# Altium footprint library SAM4N_Xplained_Pro.PcbLib: 42 footprints (part 1 of 3)
Each footprint in its own frame and in the unit in brackets; x right, y up, seen from the top. Pads: shape width x height; smd on the part's side, far side on the other; paste and mask are expansions set on the pad; w line width, h text height; cw(c..) or ccw(c..) is an arc to the next point about the centre after c.
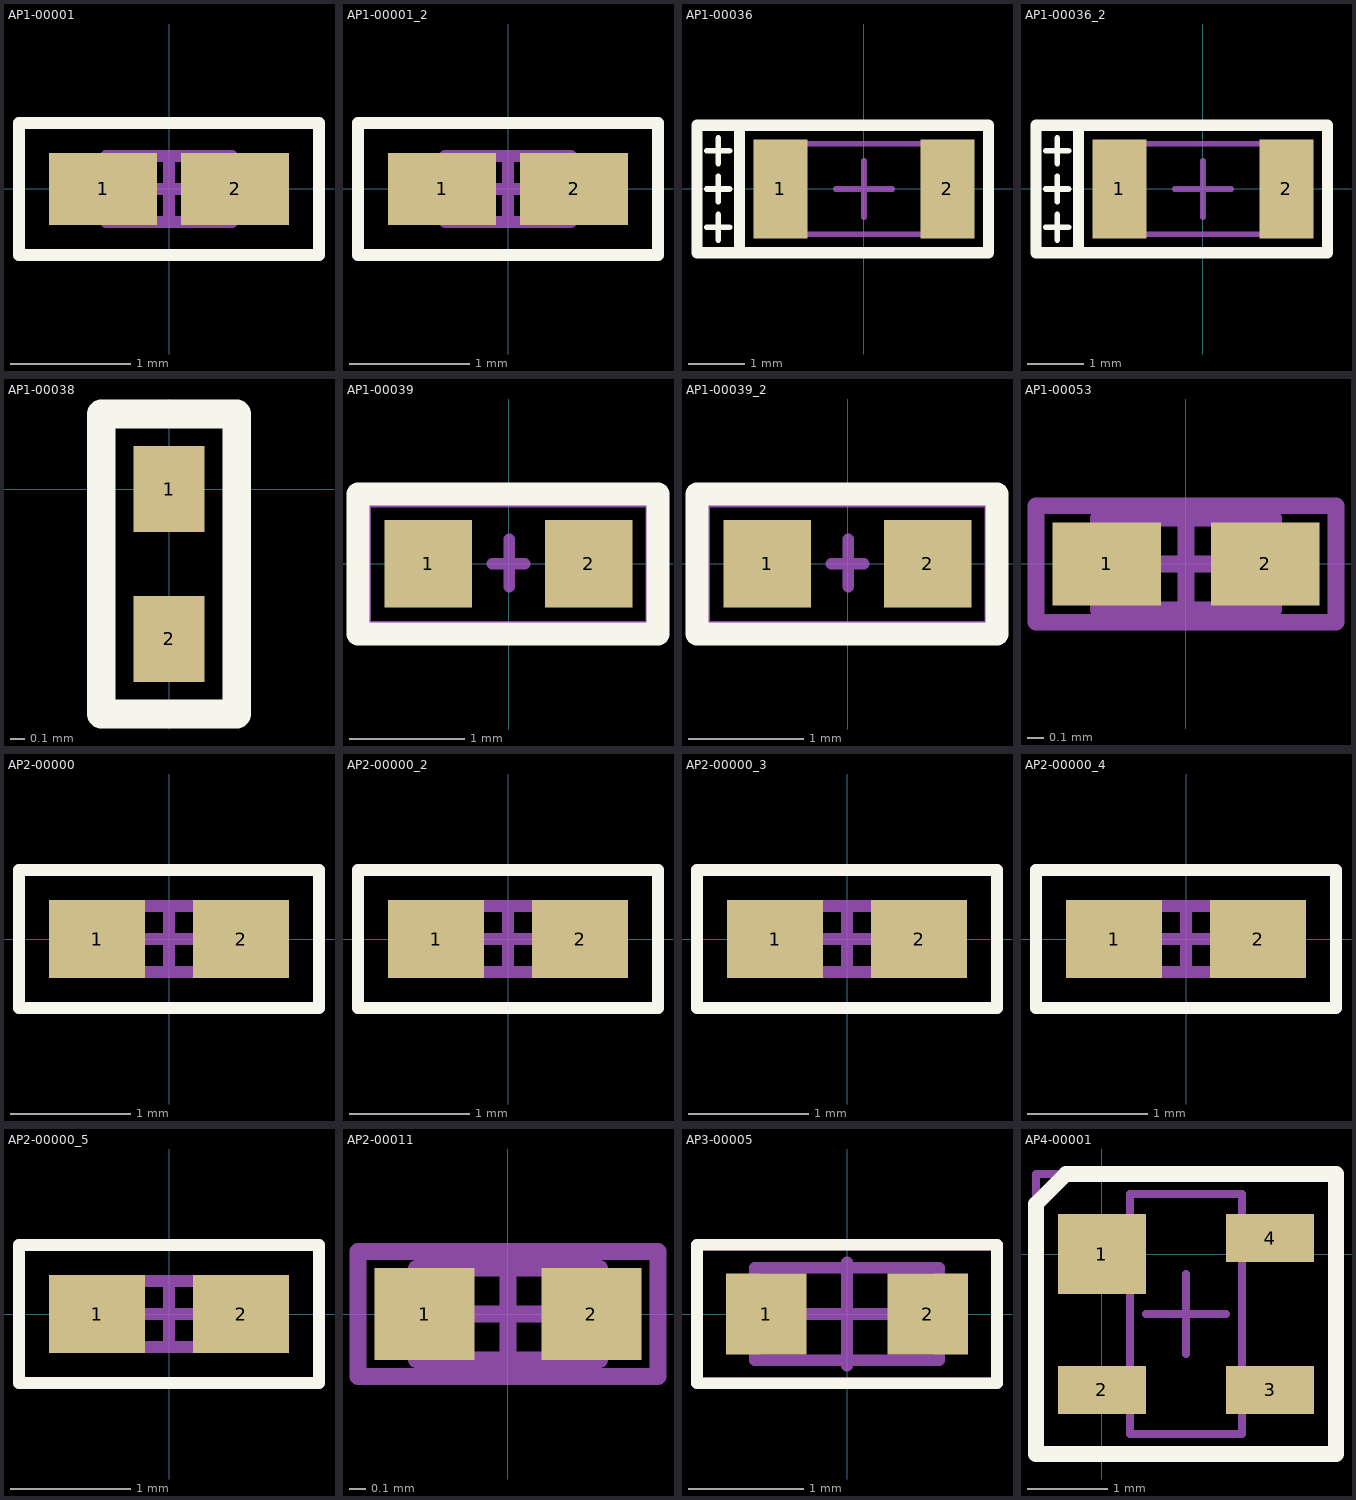
[diagram p0: the footprints below, top view; thin cyan lines are the x and y axes]

## AP1-00001 [mm]
pads (2):
  rect 0.9x0.6 smd: 1(-0.55,0) 2(0.55,0)
Top Overlay:
  lines w0.1: -1.25,-0.55 1.25,-0.55 1.25,0.55 -1.25,0.55 -1.25,-0.55
Mechanical 13:
  lines w0.1: -0.525,-0.275 0.525,-0.275 0.525,0.275 -0.525,0.275 -0.525,-0.275
Mechanical 15:
  lines w0.1: -0.275,0 0.275,0 ; 0,-0.275 0,0.275 ; -1.25,-0.55 1.25,-0.55 1.25,0.55 -1.25,0.55 -1.25,-0.55
3D body "0402 SMD Capacitor.step": height 0.2, standoff 0, extent -0.5,-0.3 0.5,0.3

## AP1-00001_2 [mm]
pads (2):
  rect 0.9x0.6 smd: 1(-0.55,0) 2(0.55,0)
Top Overlay:
  lines w0.1: -1.25,-0.55 -1.25,0.55 1.25,0.55 1.25,-0.55 -1.25,-0.55
Mechanical 13:
  lines w0.1: -0.525,-0.275 -0.525,0.275 0.525,0.275 0.525,-0.275 -0.525,-0.275
Mechanical 15:
  lines w0.1: -0.275,0 0.275,0 ; 0,-0.275 0,0.275 ; -1.25,-0.55 -1.25,0.55 1.25,0.55 1.25,-0.55 -1.25,-0.55
3D body "0402 SMD Capacitor.step": height 0.2, standoff 0, extent -0.5,-0.3 0.5,0.3

## AP1-00036 [mm]
pads (2):
  rect 0.95x1.75 smd: 1(-1.475,0) 2(1.475,0)
Top Overlay:
  lines w0.1: -2.775,-0.675 -2.375,-0.675 ; -2.775,0 -2.375,0 ; -2.775,0.675 -2.375,0.675 ; -2.575,-0.9 -2.575,-0.45 ; -2.575,-0.225 -2.575,0.225 ; -2.575,0.45 -2.575,0.9
  lines w0.2: -2.2,-1.125 2.2,-1.125 2.2,1.125 -2.2,1.125 ; -2.2,-1.125 -2.95,-1.125 -2.95,1.125 -2.2,1.125 ; -2.2,-1.125 -2.2,1.125
Mechanical 13:
  lines w0.1: -1.6,-0.8 1.6,-0.8 1.6,0.8 -1.6,0.8 -1.6,-0.8
Mechanical 15:
  lines w0.1: -0.5,0 0.5,0 ; 0,-0.5 0,0.5 ; -2.2,-1.125 2.2,-1.125 2.2,1.125 -2.2,1.125 -2.2,-1.125
3D body "1206 SMD Capacitor.step": height 1, standoff 0, extent -1.6,-0.8 1.6,0.8

## AP1-00036_2 [mm]
pads (2):
  rect 0.95x1.75 smd: 1(-1.475,0) 2(1.475,0)
Top Overlay:
  lines w0.1: -2.775,-0.675 -2.375,-0.675 ; -2.775,0 -2.375,0 ; -2.775,0.675 -2.375,0.675 ; -2.575,-0.9 -2.575,-0.45 ; -2.575,-0.225 -2.575,0.225 ; -2.575,0.45 -2.575,0.9
  lines w0.2: -2.2,-1.125 -2.2,1.125 ; -2.2,-1.125 -2.95,-1.125 -2.95,1.125 -2.2,1.125 ; -2.2,-1.125 2.2,-1.125 2.2,1.125 -2.2,1.125
Mechanical 13:
  lines w0.1: -1.6,-0.8 -1.6,0.8 1.6,0.8 1.6,-0.8 -1.6,-0.8
Mechanical 15:
  lines w0.1: -0.5,0 0.5,0 ; 0,-0.5 0,0.5 ; -2.2,-1.125 -2.2,1.125 2.2,1.125 2.2,-1.125 -2.2,-1.125
3D body "1206 SMD Capacitor.step": height 1, standoff 0, extent -1.6,-0.8 1.6,0.8

## AP1-00038 [mm]
pads (2):
  rect 0.5x0.6 smd: 1(0,0) 2(0,-1.05)
Top Overlay:
  lines w0.2: -0.475,-1.575 -0.475,0.525 0.475,0.525 0.475,-1.575 -0.475,-1.575
3D body "User Library-0402 SMD Capacitor.step": height 0.2, standoff 0, extent -0.3,-1.025 0.3,-0.025

## AP1-00039 [mil]
pads (2):
  rect 30x30 smd: 1(-27.5,0) 2(27.5,0)
Top Overlay:
  lines w7.87: -51.59,-23.98 -51.59,23.9 51.16,23.9 51.16,-23.98 -51.59,-23.98
Mechanical 15:
  lines w3.94: -5.57,0.04 0.14,0.04 ; 0.14,-7.84 0.14,0.04 ; 0.14,8.46 0.14,0.04 ; 5.58,0.04 0.14,0.04 ; -49.04,-21.46 -49.04,21.34 48.92,21.34 48.92,-21.46 -49.04,-21.46
3D body "User Library-0603 SMD Capacitor.step": height 11.89, standoff 0, extent -31.36,-15.71 31.64,15.79

## AP1-00039_2 [mil]
pads (2):
  rect 30x30 smd: 1(-27.5,0) 2(27.5,0)
Top Overlay:
  lines w7.87: -51.59,-23.98 51.16,-23.98 51.16,23.9 -51.59,23.9 -51.59,-23.98
Mechanical 15:
  lines w3.94: -5.57,0.04 0.14,0.04 ; 0.14,-7.84 0.14,0.04 ; 0.14,8.46 0.14,0.04 ; 5.58,0.04 0.14,0.04 ; -49.04,-21.46 48.92,-21.46 48.92,21.34 -49.04,21.34 -49.04,-21.46
3D body "User Library-0603 SMD Capacitor.step": height 11.89, standoff 0, extent -31.36,-15.71 31.63,15.79

## AP1-00053 [mm]
pads (2):
  rect 0.65x0.5 smd: 1(-0.475,0) 2(0.475,0)
Mechanical 13:
  lines w0.1: -0.525,-0.275 0.525,-0.275 0.525,0.275 -0.525,0.275 -0.525,-0.275
Mechanical 15:
  lines w0.1: -0.275,0 0.275,0 ; 0,-0.275 0,0.275 ; -0.9,-0.35 0.9,-0.35 0.9,0.35 -0.9,0.35 -0.9,-0.35
3D body "0402 SMD Capacitor.step": height 0.2, standoff 0, extent -0.5,-0.3 0.5,0.3

## AP2-00000 [mm]
pads (2):
  rect 0.8x0.65 smd: 1(-0.6,0) 2(0.6,0)
Top Overlay:
  lines w0.1: -1.25,-0.575 -1.25,0.575 1.25,0.575 1.25,-0.575 -1.25,-0.575
Mechanical 13:
  lines w0.1: -0.55,-0.275 0.55,-0.275 0.55,0.275 -0.55,0.275 -0.55,-0.275
Mechanical 15:
  lines w0.1: -0.275,0 0.275,0 ; 0,-0.275 0,0.275 ; -1.25,-0.575 1.25,-0.575 1.25,0.575 -1.25,0.575 -1.25,-0.575
3D body "0402 SMD Resistor.step": height 0.2, standoff 0, extent -0.5,-0.3 0.5,0.3

## AP2-00000_2 [mm]
pads (2):
  rect 0.8x0.65 smd: 1(-0.6,0) 2(0.6,0)
Top Overlay:
  lines w0.1: -1.25,-0.575 1.25,-0.575 1.25,0.575 -1.25,0.575 -1.25,-0.575
Mechanical 13:
  lines w0.1: -0.55,-0.275 -0.55,0.275 0.55,0.275 0.55,-0.275 -0.55,-0.275
Mechanical 15:
  lines w0.1: -0.275,0 0.275,0 ; 0,-0.275 0,0.275 ; -1.25,-0.575 -1.25,0.575 1.25,0.575 1.25,-0.575 -1.25,-0.575
3D body "0402 SMD Resistor.step": height 0.2, standoff 0, extent -0.5,-0.3 0.5,0.3

## AP2-00000_3 [mm]
pads (2):
  rect 0.8x0.65 smd: 1(-0.6,0) 2(0.6,0)
Top Overlay:
  lines w0.1: -1.25,-0.575 1.25,-0.575 1.25,0.575 -1.25,0.575 -1.25,-0.575
Mechanical 13:
  lines w0.1: -0.55,-0.275 -0.55,0.275 0.55,0.275 0.55,-0.275 -0.55,-0.275
Mechanical 15:
  lines w0.1: -0.275,0 0.275,0 ; 0,-0.275 0,0.275 ; -1.25,-0.575 -1.25,0.575 1.25,0.575 1.25,-0.575 -1.25,-0.575
3D body "0402 SMD Resistor.step": height 0.2, standoff 0, extent -0.5,-0.3 0.5,0.3

## AP2-00000_4 [mm]
pads (2):
  rect 0.8x0.65 smd: 1(-0.6,0) 2(0.6,0)
Top Overlay:
  lines w0.1: -1.25,-0.575 -1.25,0.575 1.25,0.575 1.25,-0.575 -1.25,-0.575
Mechanical 13:
  lines w0.1: -0.55,-0.275 0.55,-0.275 0.55,0.275 -0.55,0.275 -0.55,-0.275
Mechanical 15:
  lines w0.1: -0.275,0 0.275,0 ; 0,-0.275 0,0.275 ; -1.25,-0.575 1.25,-0.575 1.25,0.575 -1.25,0.575 -1.25,-0.575
3D body "0402 SMD Resistor.step": height 0.2, standoff 0, extent -0.5,-0.3 0.5,0.3

## AP2-00000_5 [mm]
pads (2):
  rect 0.8x0.65 smd: 1(-0.6,0) 2(0.6,0)
Top Overlay:
  lines w0.1: -1.25,-0.575 1.25,-0.575 1.25,0.575 -1.25,0.575 -1.25,-0.575
Mechanical 13:
  lines w0.1: -0.55,-0.275 -0.55,0.275 0.55,0.275 0.55,-0.275 -0.55,-0.275
Mechanical 15:
  lines w0.1: -0.275,0 0.275,0 ; 0,-0.275 0,0.275 ; -1.25,-0.575 -1.25,0.575 1.25,0.575 1.25,-0.575 -1.25,-0.575
3D body "0402 SMD Resistor.step": height 0.2, standoff 0, extent -0.5,-0.3 0.5,0.3

## AP2-00011 [mm]
pads (2):
  rect 0.6x0.55 smd: 1(-0.5,0) 2(0.5,0)
Mechanical 13:
  lines w0.1: -0.55,-0.275 -0.55,0.275 0.55,0.275 0.55,-0.275 -0.55,-0.275
Mechanical 15:
  lines w0.1: -0.275,0 0.275,0 ; 0,-0.275 0,0.275 ; -0.9,-0.375 -0.9,0.375 0.9,0.375 0.9,-0.375 -0.9,-0.375
3D body "0402 SMD Resistor.step": height 0.2, standoff 0, extent -0.5,-0.3 0.5,0.3

## AP3-00005 [mm]
pads (2):
  rect 0.7x0.7 smd: 1(-0.7,0) 2(0.7,0)
Top Overlay:
  lines w0.1: -1.3,-0.6 -1.3,0.6 1.3,0.6 1.3,-0.6 -1.3,-0.6
Mechanical 13:
  lines w0.1: -0.8,-0.4 0.8,-0.4 0.8,0.4 -0.8,0.4 -0.8,-0.4
Mechanical 15:
  lines w0.1: -0.45,0 0.45,0 ; 0,-0.45 0,0.45 ; -1.3,-0.6 1.3,-0.6 1.3,0.6 -1.3,0.6 -1.3,-0.6
3D body: height 0.8, standoff 0, extent 0.4,-0.413 0.825,0.412
3D body: height 0.8, standoff 0, extent -0.825,-0.412 -0.4,0.413
3D body: height 0.74, standoff 0.05, extent -0.8,-0.4 0.8,0.4
3D body: height 0.75, standoff 0.74, extent -0.8,-0.4 0.8,0.4

## AP4-00001 [mm]
pads (4):
  rect 1.1x1 smd: 1(0,0)
  rect 1.1x0.6 smd: 2(0,-1.7) 3(2.1,-1.7) 4(2.1,0.2)
Top Overlay:
  lines w0.2: -0.825,-2.5 -0.825,0.625 -0.45,1 2.925,1 2.925,-2.5 -0.825,-2.5
Mechanical 13:
  lines w0.1: 0.35,-2.25 1.75,-2.25 1.75,0.75 0.35,0.75 0.35,-2.25
Mechanical 15:
  lines w0.1: 0.55,-0.75 1.55,-0.75 ; 1.05,-1.25 1.05,-0.25 ; -0.825,-2.5 2.925,-2.5 2.925,1 -0.825,1 -0.825,-2.5
3D body "SW3dPS-SOT 143.step": height 1.1, standoff 0, extent -0.25,-2.25 2.25,0.75